# Altium footprint library USB_Hub.PcbLib: 2 footprints
Each footprint in its own frame and in the unit in brackets; x right, y up, seen from the top. Pads: shape width x height; smd on the part's side, far side on the other; paste and mask are expansions set on the pad; w line width, h text height; cw(c..) or ccw(c..) is an arc to the next point about the centre after c.
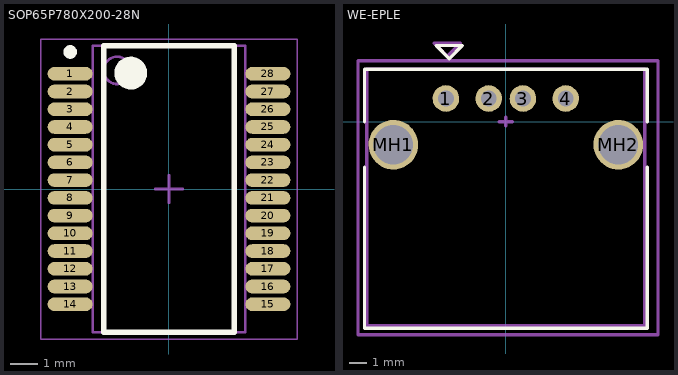
[diagram p0: the footprints below, top view; thin cyan lines are the x and y axes]

## SOP65P780X200-28N [mm] "SOP, 28-Leads, Body 10.20x5.30mm, Pitch 0.65mm, IPC Medium Density"
height 2
pads (28):
  oval 1.65x0.5 smd: 1(-3.625,4.225) 2(-3.625,3.575) 3(-3.625,2.925) 4(-3.625,2.275) 5(-3.625,1.625) 6(-3.625,0.975) 7(-3.625,0.325) 8(-3.625,-0.325) 9(-3.625,-0.975) 10(-3.625,-1.625) 11(-3.625,-2.275) 12(-3.625,-2.925) 13(-3.625,-3.575) 14(-3.625,-4.225) 15(3.625,-4.225) 16(3.625,-3.575) 17(3.625,-2.925) 18(3.625,-2.275) 19(3.625,-1.625) 20(3.625,-0.975) 21(3.625,-0.325) 22(3.625,0.325) 23(3.625,0.975) 24(3.625,1.625) 25(3.625,2.275) 26(3.625,2.925) 27(3.625,3.575) 28(3.625,4.225)
Top Overlay:
  circle w0.25: c-3.625,5.025 r0.125
  circle w0.6: c-1.4,4.25 r0.3
  lines w0.2: -2.4,-5.25 -2.4,5.25 2.4,5.25 2.4,-5.25 -2.4,-5.25
Mechanical 13:
  circle w0.1: c-1.9,4.35 r0.5
  lines w0.1: -2.8,-5.25 -2.8,5.25 2.8,5.25 2.8,-5.25 -2.8,-5.25
Mechanical 15:
  lines w0.05: -4.7,-5.5 -4.7,5.5 4.7,5.5 4.7,-5.5 -4.7,-5.5
  lines w0.1: -0.5,0 0.5,0 ; 0,-0.5 0,0.5
3D body "SOP65P780X200-28N.step": height 2, standoff 0, extent -3.9,-5.25 3.9,5.25

## WE-EPLE [mm] "THT, USB 2.0 A Connector, 4Pin, Body 15.8 x14.5mm"
height 7.12
pads (6):
  round 1.55 hole 0.92: 1(-3.5,1.35) 2(-1,1.35) 3(1,1.35) 4(3.5,1.35)
  round 2.9 hole 2.3: MH1(-6.57,-1.35) MH2(6.57,-1.35)
Top Overlay:
  lines w0.2: -8.255,-2.667 -8.255,-12.065 8.255,-12.065 8.255,-2.667 ; -8.255,0 -8.255,3.048 8.255,3.048 8.255,0 ; -4.064,4.445 -2.54,4.445 -3.302,3.683 -4.064,4.445
Mechanical 13:
  lines w0.2: -8.128,-11.938 8.128,-11.938 8.128,3.048 -8.128,3.048 -8.128,-11.938
Mechanical 15:
  lines w0.2: -0.381,0 0.381,0 ; 0,-0.254 0,0.254 ; -8.636,-12.446 8.89,-12.446 8.89,3.556 -8.636,3.556 -8.636,-12.446 ; -4.191,4.572 -3.429,3.81 -2.667,4.572 -4.191,4.572
  text ".Designator" at 0,0 h0.76
3D body "WE-EPLE_8492121_1.stp": height 7.8, standoff -3.49, extent -7.892,-11.698 7.873,2.802